# Altium footprint library Footprints.PcbLib: 11 footprints
Each footprint in its own frame and in the unit in brackets; x right, y up, seen from the top. Pads: shape width x height; smd on the part's side, far side on the other; paste and mask are expansions set on the pad; w line width, h text height; cw(c..) or ccw(c..) is an arc to the next point about the centre after c.
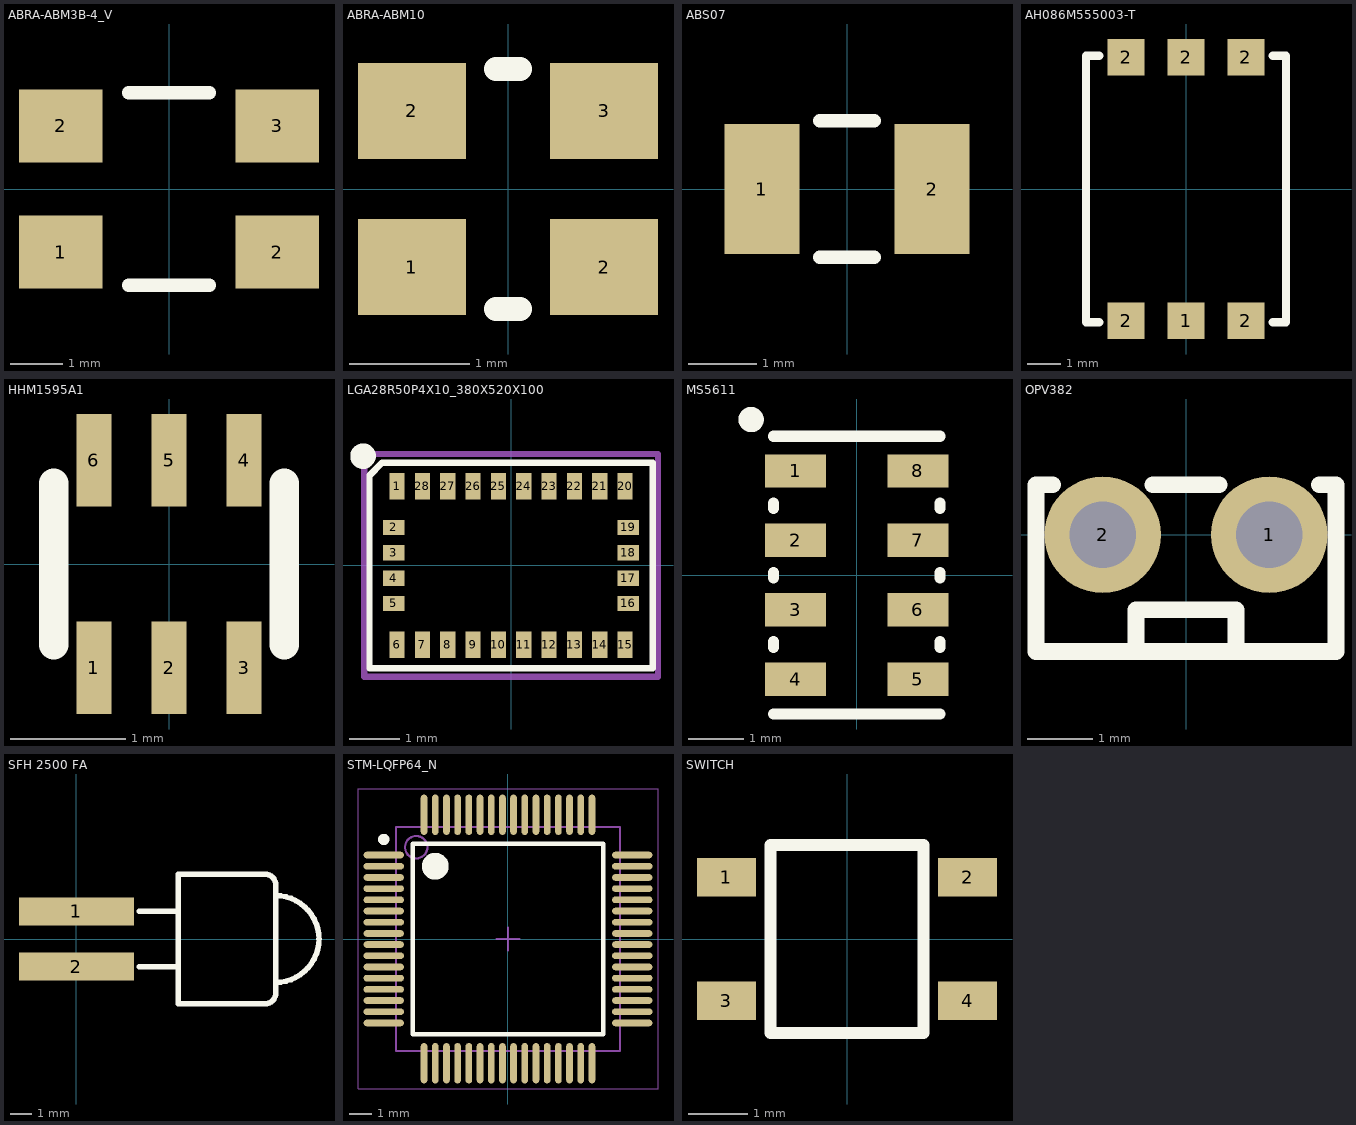
[diagram p0: the footprints below, top view; thin cyan lines are the x and y axes]

## ABRA-ABM3B-4_V [mil] "SMT Crystal, 4-Leads, Body 5.2x3.4mm"
pads (4):
  rect 63x55 smd: 1(-81.5,-47.5) 2(-81.5,47.5) 2(81.5,-47.5) 3(81.5,47.5)
Top Overlay:
  lines w10: -30.5,-72.5 30.5,-72.5 ; -30.5,72.5 30.5,72.5
3D body "ABM3B.STEP": height 43.3, standoff -0.5, extent -98.42,-62.49 98.43,62.51

## ABRA-ABM10 [mm] "SMT Crystal, 4-Leads, Body 5.2x3.4mm"
pads (4):
  rect 0.9x0.8 smd: 1(-0.8,-0.65) 2(-0.8,0.65) 2(0.8,-0.65) 3(0.8,0.65)
Top Overlay:
  lines w0.2: -0.1,-1 0.1,-1 ; -0.1,1 0.1,1
3D body "ABM10.STEP": height 0.51, standoff 0, extent -1.245,-1.003 1.245,1.003

## ABS07 [mm]
pads (2):
  rect 1.1x1.9 smd: 1(-1.25,0) 2(1.25,0)
Top Overlay:
  lines w0.2: -0.4,-1 0.4,-1 ; -0.4,1 0.4,1
3D body "ABS07.STEP": height 0.89, standoff 0, extent -1.6,-0.749 1.6,0.749

## AH086M555003-T [mm]
pads (6):
  rect 1.1x1.1 smd mask+0: 1(0,-3.95) 2(-1.8,-3.95) 2(-1.8,3.95) 2(0,3.95) 2(1.8,-3.95) 2(1.8,3.95)
Top Overlay:
  lines w0.254: -2.6,-4 -3,-4 -3,4 -2.6,4 ; 2.6,-4 3,-4 3,4 2.6,4
3D body: height 1, standoff 0, extent -3,-4 3,4

## HHM1595A1 [mm]
pads (6):
  rect 0.3x0.8 smd mask+0: 1(-0.65,-0.9) 2(0,-0.9) 3(0.65,-0.9) 4(0.65,0.9) 5(0,0.9) 6(-0.65,0.9)
Top Overlay:
  lines w0.254: -1,-0.7 -1,0.7 ; 1,-0.7 1,0.7
3D body: height 0.95, standoff 0, extent -1,-0.7 1,0.7

## LGA28R50P4X10_380X520X100 [mm]
pads (28):
  rect 0.3x0.525 smd mask+0.076: 1(-2.25,1.562) 6(-2.25,-1.562) 7(-1.75,-1.562) 8(-1.25,-1.562) 9(-0.75,-1.562) 10(-0.25,-1.562) 11(0.25,-1.562) 12(0.75,-1.562) 13(1.25,-1.562) 14(1.75,-1.562) 15(2.25,-1.562) 20(2.25,1.562) 21(1.75,1.562) 22(1.25,1.562) 23(0.75,1.562) 24(0.25,1.562) 25(-0.25,1.562) 26(-0.75,1.562) 27(-1.25,1.562) 28(-1.75,1.562)
  rect 0.425x0.3 smd mask+0.076: 2(-2.312,0.75) 3(-2.312,0.25) 4(-2.312,-0.25) 5(-2.312,-0.75) 16(2.312,-0.75) 17(2.312,-0.25) 18(2.312,0.25) 19(2.312,0.75)
Top Overlay:
  circle w0.305: c-2.921,2.159 r0.1
  lines w0.127: -2.794,-2.032 -2.794,1.778 -2.54,2.032 2.794,2.032 2.794,-2.032 -2.794,-2.032
Top Paste:
  region: -1.6,1.825 -1.9,1.825 -1.9,1.3 -1.6,1.3
  region: -1.1,1.825 -1.4,1.825 -1.4,1.3 -1.1,1.3
  region: -0.6,1.825 -0.9,1.825 -0.9,1.3 -0.6,1.3
  region: -0.1,1.825 -0.4,1.825 -0.4,1.3 -0.1,1.3
  region: 0.4,1.825 0.1,1.825 0.1,1.3 0.4,1.3
  region: 0.9,1.825 0.6,1.825 0.6,1.3 0.9,1.3
  region: 1.4,1.825 1.1,1.825 1.1,1.3 1.4,1.3
  region: 1.9,1.825 1.6,1.825 1.6,1.3 1.9,1.3
  region: 2.4,1.825 2.1,1.825 2.1,1.3 2.4,1.3
  region: 2.1,0.9 2.1,0.6 2.525,0.6 2.525,0.9
  region: 2.1,0.4 2.1,0.1 2.525,0.1 2.525,0.4
  region: 2.1,-0.1 2.1,-0.4 2.525,-0.4 2.525,-0.1
  region: 2.1,-0.6 2.1,-0.9 2.525,-0.9 2.525,-0.6
  region: 2.4,-1.3 2.1,-1.3 2.1,-1.825 2.4,-1.825
  region: 1.9,-1.3 1.6,-1.3 1.6,-1.825 1.9,-1.825
  region: 1.4,-1.3 1.1,-1.3 1.1,-1.825 1.4,-1.825
  region: 0.9,-1.3 0.6,-1.3 0.6,-1.825 0.9,-1.825
  region: 0.4,-1.3 0.1,-1.3 0.1,-1.825 0.4,-1.825
  region: -0.1,-1.3 -0.4,-1.3 -0.4,-1.825 -0.1,-1.825
  region: -0.6,-1.3 -0.9,-1.3 -0.9,-1.825 -0.6,-1.825
  region: -1.1,-1.3 -1.4,-1.3 -1.4,-1.825 -1.1,-1.825
  region: -1.6,-1.3 -1.9,-1.3 -1.9,-1.825 -1.6,-1.825
  region: -2.1,-1.3 -2.4,-1.3 -2.4,-1.825 -2.1,-1.825
  region: -2.525,-0.6 -2.525,-0.9 -2.1,-0.9 -2.1,-0.6
  region: -2.525,-0.1 -2.525,-0.4 -2.1,-0.4 -2.1,-0.1
  region: -2.525,0.4 -2.525,0.1 -2.1,0.1 -2.1,0.4
  region: -2.525,0.9 -2.525,0.6 -2.1,0.6 -2.1,0.9
  region: -2.1,1.825 -2.4,1.825 -2.4,1.3 -2.1,1.3
Mechanical 1:
  lines w0.127: -2.9,-2.2 -2.9,2.2 2.9,2.2 2.9,-2.2 -2.9,-2.2
3D body: height 0.6, standoff 0, extent -2.5,-1.8 2.5,1.8

## MS5611 [mm]
pads (8):
  rect 1.1x0.6 smd: 1(-1.1,1.875) 2(-1.1,0.625) 3(-1.1,-0.625) 4(-1.1,-1.875) 5(1.1,-1.875) 6(1.1,-0.625) 7(1.1,0.625) 8(1.1,1.875)
Top Overlay:
  circle w0.254: c-1.9,2.8 r0.1
  lines w0.2: -1.5,-2.5 1.5,-2.5 ; -1.5,-1.3 -1.5,-1.2 ; -1.5,-0.05 -1.5,0.05 ; -1.5,1.2 -1.5,1.3 ; -1.5,2.5 1.5,2.5 ; 1.5,-1.3 1.5,-1.2 ; 1.5,-0.05 1.5,0.05 ; 1.5,1.2 1.5,1.3

## OPV382 [mil]
pads (2):
  round 70 hole 40 mask+0: 1(50,0) 2(-50,0)
Top Overlay:
  lines w10: -80,30 -90,30 -90,-70 90,-70 90,30 80,30 ; -30,-70 -30,-45 30,-45 30,-70 ; -20,30 20,30
3D body "OPV382.STEP": height 250, standoff 0, extent -87.49,-80.53 87.51,30.32

## SFH 2500 FA [mm]
pads (2):
  rect 5.3x1.3 smd: 1(0,1.27) 2(0,-1.27)
Top Overlay:
  lines w0.254: 2.9,-1.27 4.7,-1.27 ; 2.9,1.27 4.7,1.27 ; 9.2,-2 ccw(c9.2,0) 9.2,2 ; 4.7,-3 8.7,-3 ccw(c8.7,-2.5) 9.2,-2.5 9.2,2.5 ccw(c8.7,2.5) 8.7,3 4.7,3 4.7,-3
3D body "SFH 2500 FA.STEP": height 4.78, standoff -0.02, extent -1.8,-2.8 12.4,2.8

## STM-LQFP64_N [mm] "Thin QFP, 64-Leads, Body 10x10mm, Pitch 0.5mm, IPC Medium Density"
height 1.6
pads (64):
  oval 1.8x0.3 smd: 1(-5.55,3.75) 2(-5.55,3.25) 3(-5.55,2.75) 4(-5.55,2.25) 5(-5.55,1.75) 6(-5.55,1.25) 7(-5.55,0.75) 8(-5.55,0.25) 9(-5.55,-0.25) 10(-5.55,-0.75) 11(-5.55,-1.25) 12(-5.55,-1.75) 13(-5.55,-2.25) 14(-5.55,-2.75) 15(-5.55,-3.25) 16(-5.55,-3.75) 33(5.55,-3.75) 34(5.55,-3.25) 35(5.55,-2.75) 36(5.55,-2.25) 37(5.55,-1.75) 38(5.55,-1.25) 39(5.55,-0.75) 40(5.55,-0.25) 41(5.55,0.25) 42(5.55,0.75) 43(5.55,1.25) 44(5.55,1.75) 45(5.55,2.25) 46(5.55,2.75) 47(5.55,3.25) 48(5.55,3.75)
  oval 0.3x1.8 smd: 17(-3.75,-5.55) 18(-3.25,-5.55) 19(-2.75,-5.55) 20(-2.25,-5.55) 21(-1.75,-5.55) 22(-1.25,-5.55) 23(-0.75,-5.55) 24(-0.25,-5.55) 25(0.25,-5.55) 26(0.75,-5.55) 27(1.25,-5.55) 28(1.75,-5.55) 29(2.25,-5.55) 30(2.75,-5.55) 31(3.25,-5.55) 32(3.75,-5.55) 49(3.75,5.55) 50(3.25,5.55) 51(2.75,5.55) 52(2.25,5.55) 53(1.75,5.55) 54(1.25,5.55) 55(0.75,5.55) 56(0.25,5.55) 57(-0.25,5.55) 58(-0.75,5.55) 59(-1.25,5.55) 60(-1.75,5.55) 61(-2.25,5.55) 62(-2.75,5.55) 63(-3.25,5.55) 64(-3.75,5.55)
Top Overlay:
  circle w0.25: c-5.55,4.45 r0.125
  circle w0.6: c-3.25,3.25 r0.3
  lines w0.2: -4.25,-4.25 -4.25,4.25 4.25,4.25 4.25,-4.25 -4.25,-4.25
Mechanical 13:
  circle w0.1: c-4.1,4.1 r0.5
  lines w0.1: -5,-5 -5,5 5,5 5,-5 -5,-5
Mechanical 15:
  lines w0.05: -6.7,-6.7 -6.7,6.7 6.7,6.7 6.7,-6.7 -6.7,-6.7
  lines w0.1: -0.5,0 0.5,0 ; 0,-0.5 0,0.5
3D body "User Library-LQFP64-2.STEP": height 1.62, standoff -0.01, extent -6.072,-6.072 6.072,6.072

## SWITCH [mm]
pads (4):
  rect 1x0.65 smd: 1(-2.05,1.05) 2(2.05,1.05) 3(-2.05,-1.05) 4(2.05,-1.05)
Top Overlay:
  lines w0.2: -1.3,-1.6 1.3,-1.6 1.3,1.6 -1.3,1.6 -1.3,-1.6
3D body "PTS810.STEP": height 2.5, standoff 0, extent -2.3,-1.6 2.3,1.6